# Altium schematic symbol library MiniCNC_ver2.SchLib: 8 symbols
Pins are listed as number, name and electrical type; pins without a type are passive.

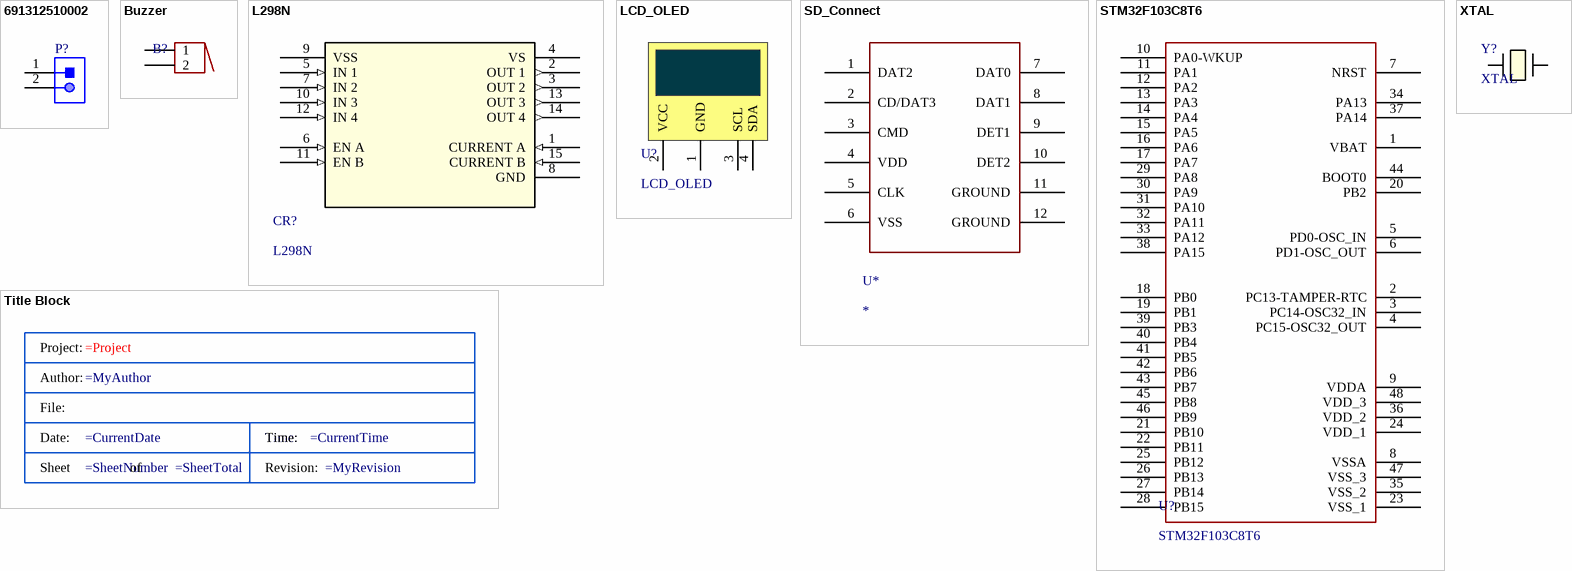
[diagram p0: symbols 691312510002 to XTAL]

## 691312510002
designator P?
WR-TBL Serie 312 Open Horizontal PCB Header, Pluggable, pitch 5.08mm, 2p; Part Number: 691312510002; Compliance: RoHS; Modularity: No; Pin Number: 2; Rated Current [UL]: 20A; Working Voltage [UL]: 300VAC; ComponentLink1Description: Manufacturer; ComponentLink1URL: http://www.we-online.de; ComponentLink2URL: https://katalog.we-online.de/em/datasheet/691312510002.pdf; ComponentLink2Description: Datasheet; Mounting Technology: THT; Packaging: Box; Operating Temperature: -40 to +105degC; PCB/Cable/Panel: PCB; Pitch: 5.08mm; Published Date: October 2019; Type: Horizontal; Publisher: Wurth Elektronik; Application: Pluggable
footprint 691312510002 (5,08mm - PCB Headers - Horizontal - Opened ends - 02p)
pins: 1, 2

## Buzzer
designator B?  (value not drawn)
Local Supplier: thegioiic; Local Supplier Link: https://www.thegioiic.com/products/1209-dip-buzzer-12x9mm; Local Supplier Part Number: 1209 DIP Buzzer 12x9mm
footprint BUZZER
pins: 1, 2

## L298N
designator CR?
No Description Available; Mfr_Name: STMicroelectronics; Type: DEV; Copyright: Copyright (C) 2023 Ultra Librarian. All rights reserved.; Manufacturer_Part_Number: L298N; RefDes: RefDes
footprint Multiwatt15_V_STM
pins: 1 CURRENT A (in), 2 OUT 1 (out), 3 OUT 2 (out), 4 VS (power), 5 IN 1 (in), 6 EN A (in), 7 IN 2 (in), 8 GND, 9 VSS (power), 10 IN 3 (in), 11 EN B (in), 12 IN 4 (in), 13 OUT 3 (out), 14 OUT 4 (out), 15 CURRENT B (in)

## LCD_OLED
designator U?
footprint LCD_OLED
pins: 1 GND, 2 VCC, 3 SCL, 4 SDA

## SD_Connect
designator U*
8 pin, PUSH-PUSH
footprint SD_CONNECT
pins: 1 DAT2, 2 CD/DAT3, 3 CMD, 4 VDD, 5 CLK, 6 VSS, 7 DAT0, 8 DAT1, 9 DET1, 10 DET2, 11 GROUND, 12 GROUND

## STM32F103C8T6
designator U?
Manufacturer: ST Electronic; Manufacture Part Number: STM32F103C8T6; Local Supplier: thegioiic; Local Supplier Part Number: STM32F103C8T6; Local Supplier Link: https://www.thegioiic.com/products/stm32f103c8t6
footprint LQFP-48
pins: 1 VBAT, 2 PC13-TAMPER-RTC, 3 PC14-OSC32_IN, 4 PC15-OSC32_OUT, 5 PD0-OSC_IN, 6 PD1-OSC_OUT, 7 NRST, 8 VSSA, 9 VDDA, 10 PA0-WKUP, 11 PA1, 12 PA2, 13 PA3, 14 PA4, 15 PA5, 16 PA6, 17 PA7, 18 PB0, 19 PB1, 20 PB2, 21 PB10, 22 PB11, 23 VSS_1, 24 VDD_1, 25 PB12, 26 PB13, 27 PB14, 28 PB15, 29 PA8, 30 PA9, 31 PA10, 32 PA11, 33 PA12, 34 PA13, 35 VSS_2, 36 VDD_2, 37 PA14, 38 PA15, 39 PB3, 40 PB4, 41 PB5, 42 PB6, 43 PB7, 44 BOOT0, 45 PB8, 46 PB9, 47 VSS_3, 48 VDD_3

## Title Block
designator *  (value not drawn)  (graphical)
text: Project:; Author:; File:; Date:; Time:; Sheet; of; Revision:

## XTAL
designator Y?
No Description Available; Mfr_Name: KYOCERA AVX; Manufacturer_Part_Number: CX5032GB08000H0HEQZ1; Copyright: Copyright (C) 2023 Ultra Librarian. All rights reserved.; RefDes: RefDes; Type: DEV
footprint xtal2_CX5032GB_AVX-L
pins: 1, 2